# EAGLE library part T3168 (library Wireless Power Supplies)
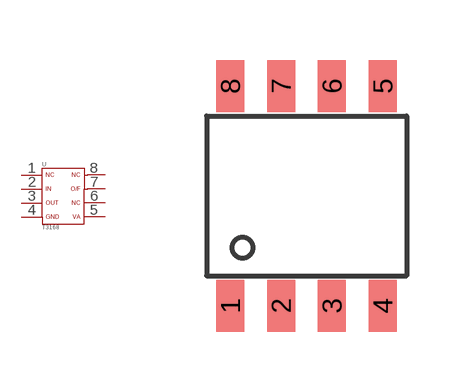
[diagram p2: symbol with the pads of SOP-8; footprint SOP-8]

Designator prefix U

## T3168  [SOP-8]
1  1  pas
2  2  pas
3  3  pas
4  4  pas
5  5  pas
6  6  pas
7  7  pas
8  8  pas

## Footprint SOP-8 (pad centres in mm)
smd 0.7 x 1.3: 1 -1.905,-2.75; 2 -0.635,-2.75; 3 0.635,-2.75; 4 1.905,-2.75; 5 1.905,2.75; 6 0.635,2.75; 7 -0.635,2.75; 8 -1.905,2.75